# Altium schematic symbol library N2516-6002-RB.SchLib: 1 symbol
Pins are listed as number, name and electrical type; pins without a type are passive.

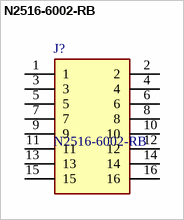
[diagram p0: symbol N2516-6002-RB]

## N2516-6002-RB
designator J?
CONN HEADER VERT 16POS 2.54MM; Manufacturer_Name: 3M; Geometry.Height: 10.04mm; Manufacturer_Part_Number: N2516-6002-RB; Mouser Part Number: *; Mouser Price/Stock: *; Arrow Part Number: N2516-6002-RB; Arrow Price/Stock: https://www.arrow.com/en/products/n2516-6002-rb/3m?region=europe; Datasheet Link: http://multimedia.3m.com/mws/media/330367O/3m-four-wall-header-2500-series-ts-0770.pdf
footprint SHDR16W77P254_2X8_2764X859X1004P
pins: 1, 2, 3, 4, 5, 6, 7, 8, 9, 10, 11, 12, 13, 14, 15, 16